# EAGLE library part ATMEGA328 (library hmcfabstudio)
Atmega328 in a DIL28 package with pin names taken from the datasheet.
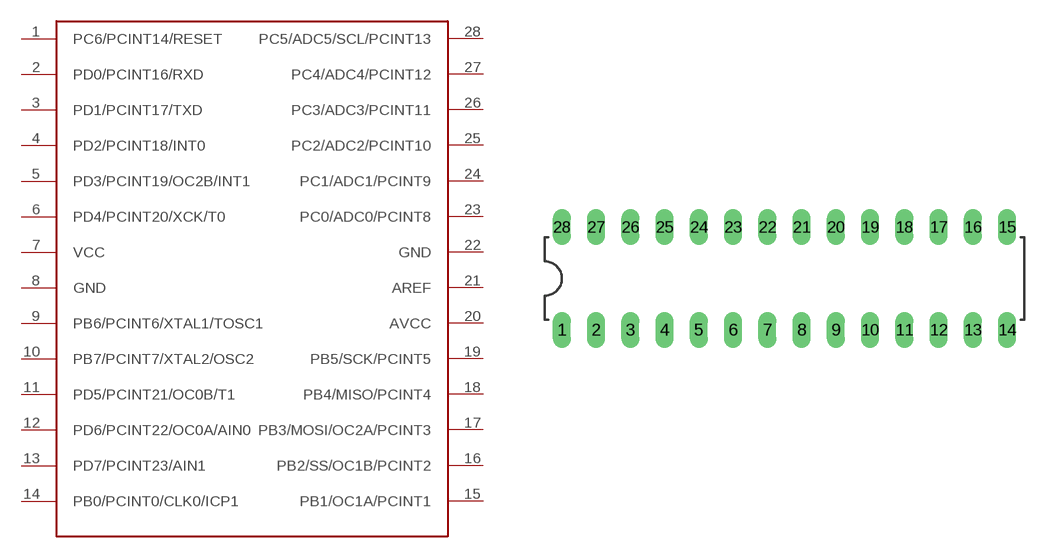
[diagram p1: symbol with the pads of DIL28-3; footprint DIL28-3]

Designator prefix -

## ATMEGA328  [DIL28-3]
1  PC6/PCINT14/RESET
2  PD0/PCINT16/RXD
3  PD1/PCINT17/TXD
4  PD2/PCINT18/INT0
5  PD3/PCINT19/OC2B/INT1
6  PD4/PCINT20/XCK/T0
7  VCC  pwr
8  GND  pwr
9  PB6/PCINT6/XTAL1/TOSC1
10  PB7/PCINT7/XTAL2/OSC2
11  PD5/PCINT21/OC0B/T1
12  PD6/PCINT22/OC0A/AIN0
13  PD7/PCINT23/AIN1
14  PB0/PCINT0/CLK0/ICP1
15  PB1/OC1A/PCINT1
16  PB2/SS/OC1B/PCINT2
17  PB3/MOSI/OC2A/PCINT3
18  PB4/MISO/PCINT4
19  PB5/SCK/PCINT5
20  AVCC
21  AREF
22  GND  pwr
23  PC0/ADC0/PCINT8
24  PC1/ADC1/PCINT9
25  PC2/ADC2/PCINT10
26  PC3/ADC3/PCINT11
27  PC4/ADC4/PCINT12
28  PC5/ADC5/SCL/PCINT13

## Footprint DIL28-3 (pad centres in mm)
Standard 28-pin DIP package. IC needs to have legs bent before insertion.
drill 0.813 long: 1 -16.51,-3.81; 2 -13.97,-3.81; 3 -11.43,-3.81; 4 -8.89,-3.81; 5 -6.35,-3.81; 6 -3.81,-3.81; 7 -1.27,-3.81; 8 1.27,-3.81; 9 3.81,-3.81; 10 6.35,-3.81; 11 8.89,-3.81; 12 11.43,-3.81; 13 13.97,-3.81; 14 16.51,-3.81; 15 16.51,3.81; 16 13.97,3.81; 17 11.43,3.81; 18 8.89,3.81; 19 6.35,3.81; 20 3.81,3.81; 21 1.27,3.81; 22 -1.27,3.81; 23 -3.81,3.81; 24 -6.35,3.81; 25 -8.89,3.81; 26 -11.43,3.81; 27 -13.97,3.81; 28 -16.51,3.81